# Altium schematic symbol library RS232_Level_Shifter.SchLib: 1 symbol
Pins are listed as number, name and electrical type; pins without a type are passive.

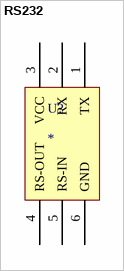
[diagram p0: symbol RS232]

## RS232
designator U?
footprint rs232
pins: 1 TX, 2 RX, 3 VCC, 4 RS-OUT, 5 RS-IN, 6 GND